# Altium schematic symbol library SRP1265A-330M.SchLib: 1 symbol
Pins are listed as number, name and electrical type; pins without a type are passive.

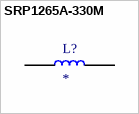
[diagram p0: symbol SRP1265A-330M]

## SRP1265A-330M
designator L?
Inductor Power Shielded Wirewound 33uH 20% 100KHz Carbonyl Powder 8A 58mOhm DCR Automotive T/R; MF: {'manufacturer': u'Bourns'}; MP: SRP1265A-330M; Package: None; Price: None; Value: *; Availability: Unavailable
footprint IND_SRP1265A-330M
pins: 1, 2